# EAGLE library part CBT3306 (library NXP)
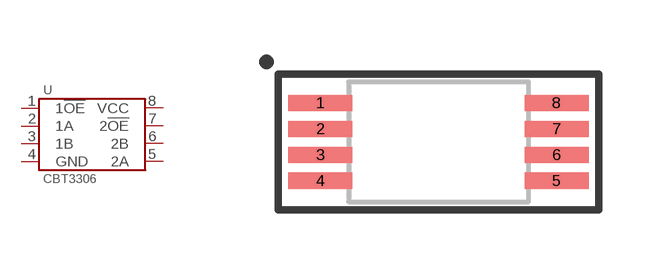
[diagram p11: symbol with the pads of TSSOP8-4.4MM; footprint TSSOP8-4.4MM]

Designator prefix U

## CBT3306PW,118  [TSSOP8-4.4MM]
1  1!OE
2  1A
3  1B
4  GND
5  2A
6  2B
7  2!OE
8  VCC

## Footprint TSSOP8-4.4MM (pad centres in mm)
smd 1.6 x 0.4: 1 -2.95,0.975; 2 -2.95,0.325; 3 -2.95,-0.325; 4 -2.95,-0.975; 5 2.95,-0.975; 6 2.95,-0.325; 7 2.95,0.325; 8 2.95,0.975